# Altium schematic symbol library HY57V561620_TSOP54.SchLib: 1 symbol
Pins are listed as number, name and electrical type; pins without a type are passive.

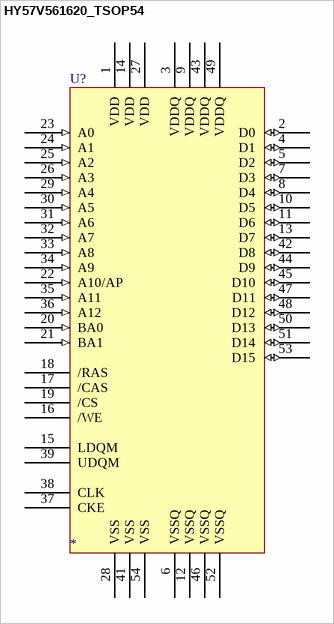
[diagram p0: symbol HY57V561620_TSOP54]

## HY57V561620_TSOP54
designator U?
pins: 1 VDD (power), 2 D0 (io), 3 VDDQ (power), 4 D1 (io), 5 D2 (io), 6 VSSQ (power), 7 D3 (io), 8 D4 (io), 9 VDDQ (power), 10 D5 (io), 11 D6 (io), 12 VSSQ (power), 13 D7 (io), 14 VDD (power), 15 LDQM, 16 /WE, 17 /CAS, 18 /RAS, 19 /CS, 20 BA0 (in), 21 BA1 (in), 22 A10/AP (in), 23 A0 (in), 24 A1 (in), 25 A2 (in), 26 A3 (in), 27 VDD (power), 28 VSS (power), 29 A4 (in), 30 A5 (in), 31 A6 (in), 32 A7 (in), 33 A8 (in), 34 A9 (in), 35 A11 (in), 36 A12 (in), 37 CKE, 38 CLK, 39 UDQM, 40 NC hidden, 41 VSS (power), 42 D8 (io), 43 VDDQ (power), 44 D9 (io), 45 D10 (io), 46 VSSQ (power), 47 D11 (io), 48 D12 (io), 49 VDDQ (power), 50 D13 (io), 51 D14 (io), 52 VSSQ (power), 53 D15 (io), 54 VSS (power)
2 alternate drawings of the same symbol